# Altium footprint library Indutores.PcbLib: 5 footprints
Each footprint in its own frame and in the unit in brackets; x right, y up, seen from the top. Pads: shape width x height; smd on the part's side, far side on the other; paste and mask are expansions set on the pad; w line width, h text height; cw(c..) or ccw(c..) is an arc to the next point about the centre after c.
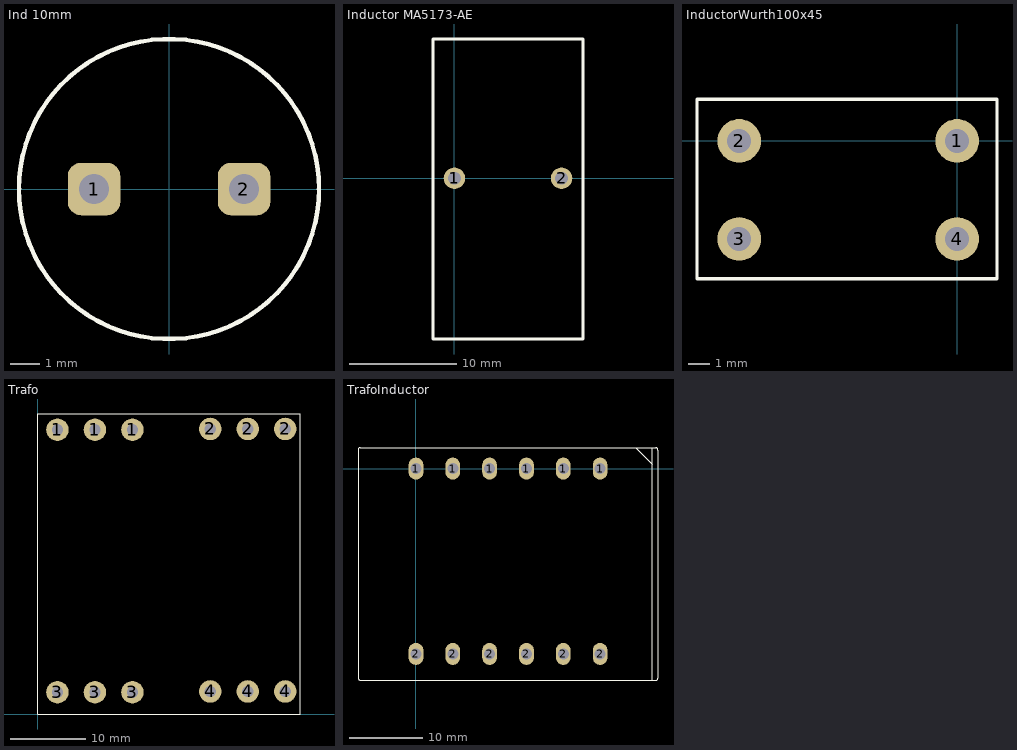
[diagram p0: the footprints below, top view; thin cyan lines are the x and y axes]

## Ind 10mm [mil]
pads (2):
  rrect50% 70x70 hole 40: 1(-100,0) 2(100,0)
Top Overlay:
  circle w6: c0,0 r200
3D body: height 477.56, standoff -152.36, extent -196.86,-191.54 196.84,202.16

## Inductor MA5173-AE [mm]
pads (2):
  round 2 hole 1.2: 1(0,0) 2(10,0)
Top Overlay:
  lines w0.254: -2,-2 -2,13 12,13 12,-15 -2,-15 -2,0
3D body: height 28.6, standoff -12, extent -1.15,-14.3 11.15,14.3

## InductorWurth100x45 [mm]
pads (4):
  round 2 hole 1.1: 1(0,0) 2(-10,0) 3(-10,-4.5) 4(0,-4.5)
Top Overlay:
  lines w0.152: -11.938,-6.325 1.829,-6.325 1.829,1.905 -11.938,1.905 -11.938,-6.325
3D body: height 14.6, standoff -2.5, extent -11.555,-5.985 1.445,1.515

## Trafo [mm]
pads (12):
  round 3 hole 1.5: 1(2.626,37.898) 1(7.626,37.898) 1(12.626,37.898) 2(23,38) 2(28,38) 2(33,38) 3(2.626,2.898) 3(7.626,2.898) 3(12.626,2.898) 4(23,3) 4(28,3) 4(33,3)
Top Overlay:
  lines w0.152: 0,0 35,0 35,40 0,40 0,0
3D body: height 35, standoff 30, extent -0.089,6.985 34.989,34.785
3D body: height 30, standoff 10, extent -0.17,7.163 4.296,34.786
3D body: height 30, standoff 10, extent 4.298,7.803 30.196,33.752
3D body: height 10, standoff 1, extent -0.146,0 35,39.768
3D body: height 30, standoff 10, extent 30.452,7.084 34.918,34.708

## TrafoInductor [mm]
pads (12):
  oval 2x3 hole 1.5: 1(0,0) 1(5,0) 1(10,0) 1(15,0) 1(20,0) 1(25,0) 2(0,-25.146) 2(5,-25.146) 2(10,-25.146) 2(15,-25.146) 2(20,-25.146) 2(25,-25.146)
Top Overlay:
  lines w0.152: -7.865,2.515 cw(c-7.544,2.515) -7.544,2.836 ; -7.855,2.515 -7.849,-28.397 ; -7.844,-28.397 ccw(c-7.522,-28.397) -7.522,-28.719 ; -7.544,2.841 32.53,2.841 ; -7.522,-28.731 32.534,-28.731 ; 29.82,2.819 32.055,0.584 32.055,0.559 ; 32.055,-28.702 32.055,2.841 ; 32.53,2.836 cw(c32.53,2.515) 32.851,2.515 ; 32.534,-28.726 ccw(c32.534,-28.405) 32.856,-28.405 32.856,2.515
3D body: height 35, standoff 30, extent -7.556,-29.07 32.347,2.604
3D body: height 30, standoff 10, extent 27.546,-28.943 32.017,2.629
3D body: height 30, standoff 10, extent -7.607,-28.969 -3.137,2.603
3D body: height 30, standoff 10, extent -3.198,-28.077 26.684,1.864
3D body: height 10, standoff 1, extent -7.772,-28.804 32.131,2.87